# Altium schematic symbol library SCH - POWER - MODULE - AD - DCDC-LTC6655BHMS8-2.5.SCHLIB: 1 symbol
Pins are listed as number, name and electrical type; pins without a type are passive.

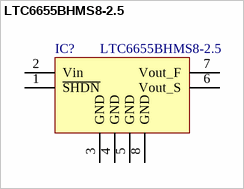
[diagram p0: symbol LTC6655BHMS8-2.5]

## LTC6655BHMS8-2.5
designator IC?
Voltage References 2,5V, 2ppm/°C, Low Noise 0,25ppm; Manufacturer: Linear Technology; Class I: Discret; Package information: Unknown; Best.-Nr.: Farnell 229-5508; Class II: Voltage References 2,5V, 2ppm/°C, Low Noise 0,25ppm; Datasheet: Unknown; Package reference: MSOP-8
footprint MSOP-8 (RM-8)
pins: 1 ~{SHDN}, 2 Vin, 3 GND, 4 GND, 5 GND, 6 Vout_S, 7 Vout_F, 8 GND